# Altium schematic symbol library LM22670MRE.SchLib: 1 symbol
Pins are listed as number, name and electrical type; pins without a type are passive.

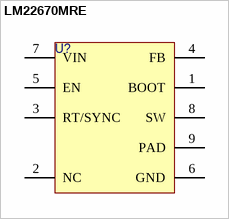
[diagram p0: symbol LM22670MRE]

## LM22670MRE
designator U?  (value not drawn)
pins: 1 BOOT, 2 NC, 3 RT/SYNC, 4 FB, 5 EN, 6 GND (power), 7 VIN, 8 SW (power), 9 PAD (power)